# EAGLE library part USB-C (library USB-C)
Check availability <https://pricing.snapeda.com/parts/USB-C/Adam%20Technologies/view-part?ref=eda>
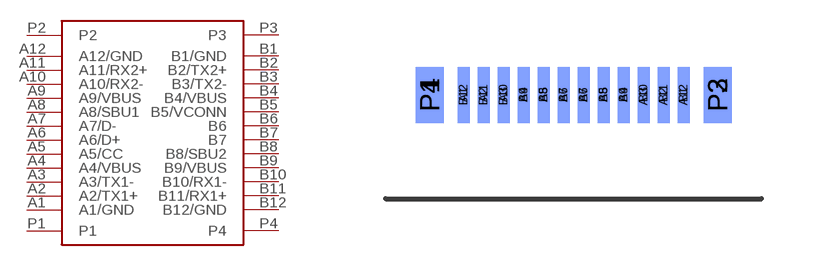
[diagram p0: symbol with the pads of USB-C; footprint USB-C]

Designator prefix -

## USB-C (Availability: Not in stock; Check_prices: https://www.snapeda.com/parts/USB-C/Adam+Tech/view-part/?ref=eda; Description: USB-C (USB TYPE-C) USB 3.2 Gen 2 (USB 3.1 Gen 2, Superspeed + (USB 3.1)) Receptacle Connector 24 Position Surface Mount, Through Hole; MF: Adam Technologies; MP: USB-C; Package: None; Price: None; SnapEDA_Link: https://www.snapeda.com/parts/USB-C/Adam+Tech/view-part/?ref=snap)  [USB-C]
A1  A1/GND
A2  A2/TX1+
A3  A3/TX1-
A4  A4/VBUS
A5  A5/CC
A6  A6/D+
A7  A7/D-
A8  A8/SBU1
A9  A9/VBUS
A10  A10/RX2-
A11  A11/RX2+
A12  A12/GND
B1  B1/GND
B2  B2/TX2+
B3  B3/TX2-
B4  B4/VBUS
B5  B5/VCONN
B6  B6
B7  B7
B8  B8/SBU2
B9  B9/VBUS
B10  B10/RX1-
B11  B11/RX1+
B12  B12/GND
P1  P1
P2  P2
P3  P3
P4  P4

## Footprint USB-C (pad centres in mm)
smd 0.3 x 1.4: A1 -2.75,0; A2 -2.25,0; A3 -1.75,0; A4 -1.25,0; A5 -0.75,0; A6 -0.25,0; A7 0.25,0; A8 0.75,0; A9 1.25,0; A10 1.75,0; A11 2.25,0; A12 2.75,0
smd 0.3 x 1.4 bottom: B1 2.75,0; B2 2.25,0; B3 1.75,0; B4 1.25,0; B5 0.75,0; B6 0.25,0; B7 -0.25,0; B8 -0.75,0; B9 -1.25,0; B10 -1.75,0; B11 -2.25,0; B12 -2.75,0
smd 0.7 x 1.4: P1 -3.6,0; P2 3.6,0
smd 0.7 x 1.4 bottom: P3 3.6,0; P4 -3.6,0